# Altium schematic symbol library UCC2721x.Schlib: 1 symbol
Pins are listed as number, name and electrical type; pins without a type are passive.

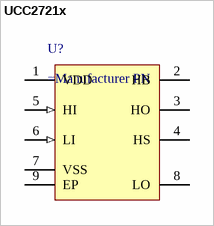
[diagram p0: symbol UCC2721x]

## UCC2721x
designator U?
Gate Driver, High and Low side, 8-Pin w/ EP Pad
pins: 1 VDD (power), 2 HB, 3 HO, 4 HS, 5 HI (in), 6 LI (in), 7 VSS (power), 8 LO, 9 EP (power)